# Altium integrated library 2N2222A.IntLib: 1 symbol
Pins are listed as number, name and electrical type; pins without a type are passive.

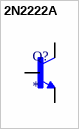
[diagram p0: symbol 2N2222A]

## 2N2222A
designator Q?
BJT, TO-92, 40V, 600mA, NPN, 0.625W, 150Â°C; MF: Diotec Semiconductor; MP: 2N2222A; SnapEDA_Link: https://www.snapeda.com/parts/2N2222A/Diotec/view-part/?ref=snap; Package: TO-92 Diotec; Value: *; Check_prices: https://www.snapeda.com/parts/2N2222A/Diotec/view-part/?ref=eda
footprint TO92254P470H750-3
pins: 1 E, 2 B, 3 C